# Altium footprint library Mainboard.PcbLib: 25 footprints (part 1 of 2)
Each footprint in its own frame and in the unit in brackets; x right, y up, seen from the top. Pads: shape width x height; smd on the part's side, far side on the other; paste and mask are expansions set on the pad; w line width, h text height; cw(c..) or ccw(c..) is an arc to the next point about the centre after c.
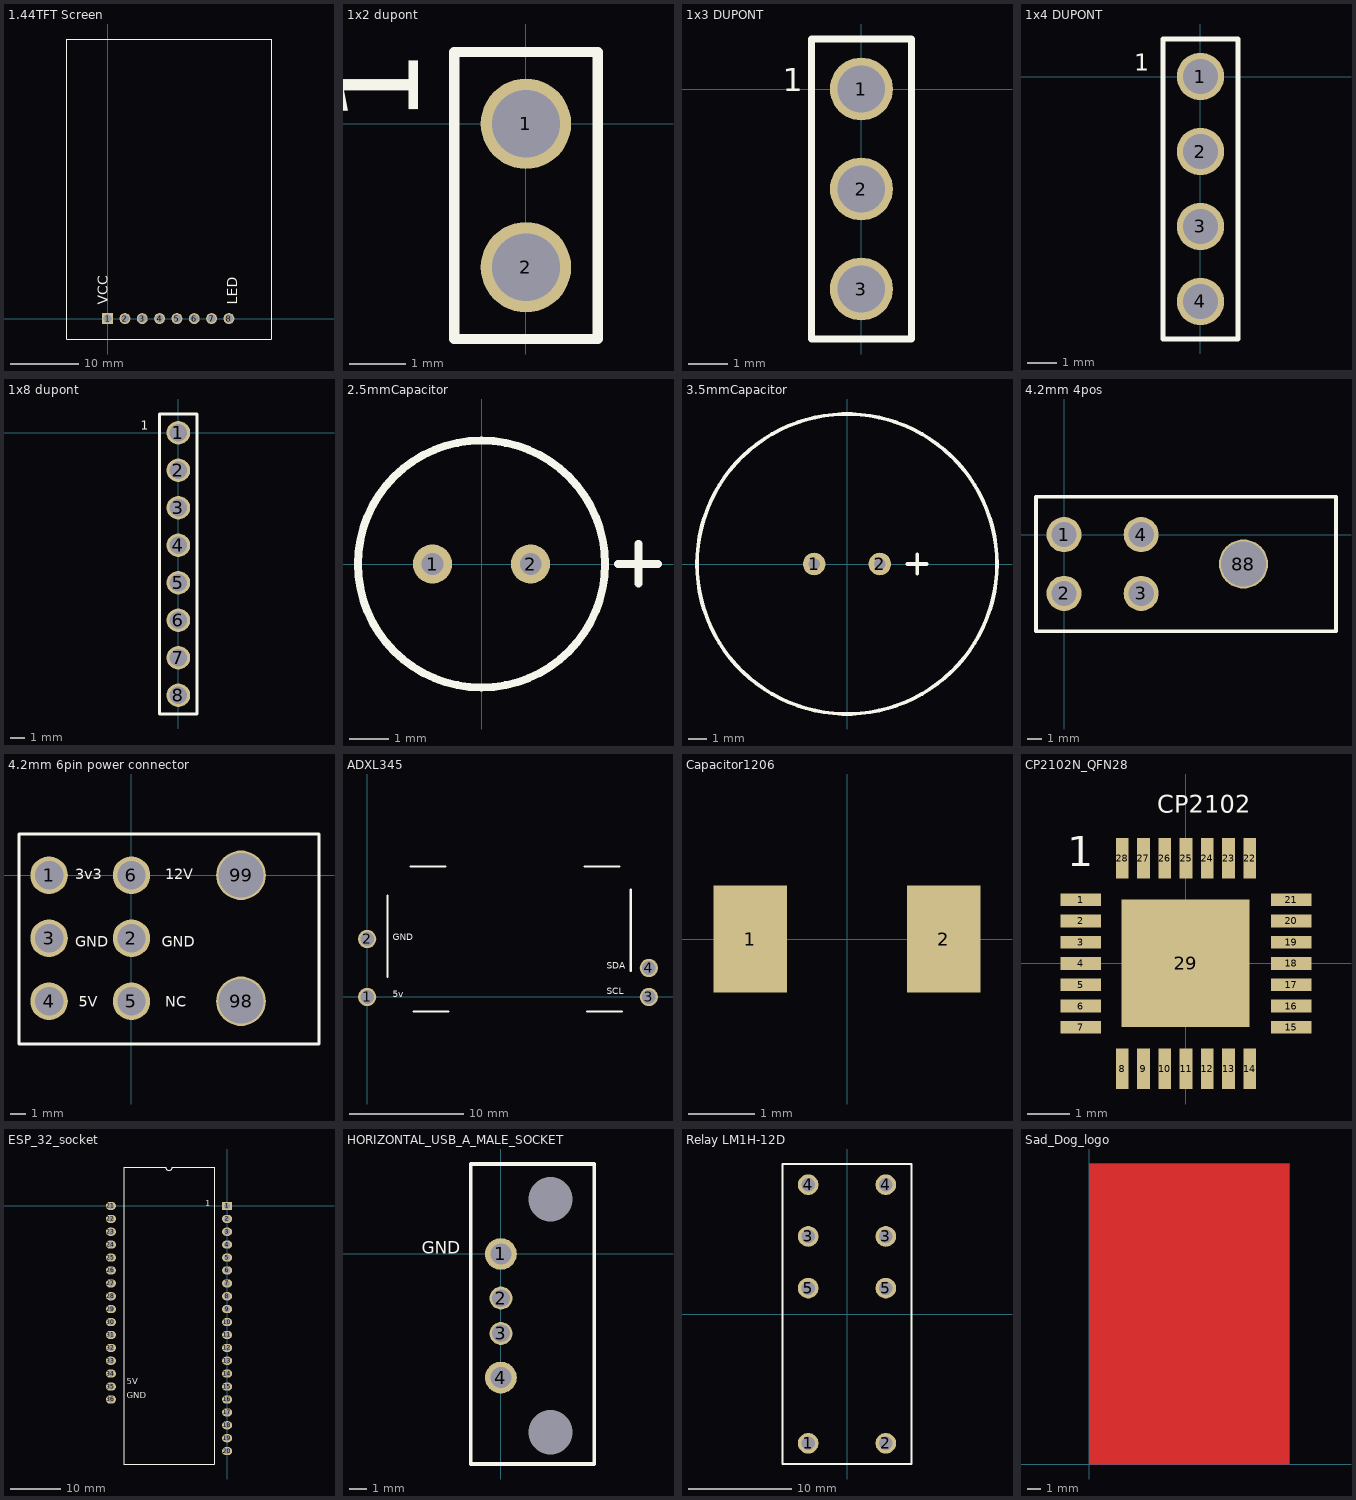
[diagram p0: the footprints below, top view; thin cyan lines are the x and y axes]

## 1.44TFT Screen [mm]
pads (8):
  rect 1.6x1.6 hole 1.2: 1(0,0)
  round 1.6 hole 1.2: 2(2.54,0) 3(5.08,0) 4(7.62,0) 5(10.16,0) 6(12.7,0) 7(15.24,0) 8(17.78,0)
Top Overlay:
  lines w0.18: -6,-3 24,-3 24,41 -6,41 -6,-3
  text "LED" at 19,2 h1.52
  text "VCC" at 0,2 h1.52

## 1x2 dupont [mm]
pads (2):
  round 1.6 hole 1.2: 1(0,0) 2(0,-2.54)
Top Overlay:
  lines w0.18: -1.27,-3.81 -1.27,1.27 1.27,1.27 1.27,-3.81 -1.27,-3.81
  text "1" at -1.905,0 h1.5
3D body "1x2 TH Pitch 2_54mm.step": height 9.5, standoff -3.2, extent -1.27,-3.81 1.27,1.27

## 1x3 DUPONT [mm]
pads (3):
  round 1.6 hole 1.2: 1(0,0) 2(0,-2.54) 3(0,-5.08)
Top Overlay:
  lines w0.18: -1.27,-6.35 1.27,-6.35 1.27,1.27 -1.27,1.27 -1.27,-6.35
  text "1" at -2,-0.25 h1
3D body "1x3 TH Pitch 2_54mm.step": height 9.5, standoff -3.2, extent -1.27,-6.35 1.27,1.27

## 1x4 DUPONT [mm]
pads (4):
  round 1.6 hole 1.2: 1(0,0) 2(0,-2.54) 3(0,-5.08) 4(0,-7.62)
Top Overlay:
  lines w0.18: -1.27,-8.89 -1.27,1.27 1.27,1.27 1.27,-8.89 -1.27,-8.89
  text "1" at -2.25,0 h1
3D body "1x4 TH Pitch 2_54mm.STEP": height 9.2, standoff -3.5, extent -1.27,-8.89 1.27,1.27

## 1x8 dupont [mm]
pads (8):
  round 1.6 hole 1.2: 1(0,0) 2(0,-2.54) 3(0,-5.08) 4(0,-7.62) 5(0,-10.16) 6(0,-12.7) 7(0,-15.24) 8(0,-17.78)
Top Overlay:
  lines w0.2: -1.27,-19.05 -1.27,1.27 1.27,1.27 1.27,-19.05 -1.27,-19.05
  text "1" at -2.54,0 h1
3D body "1x8 TH Pitch 2_54mm.STEP": height 9.2, standoff -3.5, extent -1.27,-19.05 1.27,1.27

## 2.5mmCapacitor [mm]
pads (2):
  round 1 hole 0.55: 1(-1.25,0) 2(1.25,0)
Top Overlay:
  circle w0.2: c0,0 r3.15
  lines w0.2: 3.484,0 4.5,0 ; 4,-0.5 4,0.516
3D body "User Library-Cap-EL(6_3x11-2_5).step": height 11, standoff -3.2, extent -3.15,-3.149 3.152,3.149

## 3.5mmCapacitor [mm]
pads (2):
  round 1.2 hole 0.6: 1(-1.75,0) 2(1.75,0)
Top Overlay:
  circle w0.2: c0,0 r8
  lines w0.2: 3.232,0 4.248,0 ; 3.74,-0.508 3.74,0.508

## 4.2mm 4pos [mm]
pads (5):
  round 2.5 hole 1.8: 1(0,0) 2(0,-4.2) 3(5.5,-4.2) 4(5.5,0)
  round 3.5 hole 3.2: 88(12.8,-2.1)
Top Overlay:
  lines w0.254: -2,-6.9 19.4,-6.9 19.4,2.7 -2,2.7 -2,-6.9
3D body "39300040.stp": height 11.4, standoff -3.6, extent -0.467,-6.9 19.467,3.1

## 4.2mm 6pin power connector [mm]
pads (8):
  round 2.5 hole 1.9: 1(-5.5,0) 2(0,-4.2) 3(-5.5,-4.2) 4(-5.5,-8.4) 5(0,-8.4) 6(0,0)
  round 3.3 hole 3 unplated: 98(7.3,-8.4) 99(7.3,0)
Top Overlay:
  lines w0.2: -7.5,-11.25 12.5,-11.25 12.5,2.75 -7.5,2.75 -7.5,-11.25
  text "12V" at 2.25,-0.5 h1.2
  text "GND" at -3.75,-5 h1.2
  text "NC" at 2.25,-9 h1.2
  text "5V" at -3.5,-9 h1.2
  text "GND" at 2,-5 h1.2
  text "3v3" at -3.75,-0.5 h1.2

## ADXL345 [mm]
pads (4):
  round 1.6 hole 1.2: 1(0,0) 2(0,5.08) 3(24.7,0) 4(24.7,2.54)
Top Overlay:
  lines w0.2: 1.778,1.778 1.778,8.89 ; 3.81,11.43 6.858,11.43 ; 4.064,-1.27 7.112,-1.27 ; 19.05,11.43 22.098,11.43 ; 19.304,-1.27 20.066,-1.27 21.59,-1.27 22.352,-1.27 ; 23.114,2.286 23.114,9.398
  text "SCL" at 21,0 h1
  text "SDA" at 21,2.25 h1
  text "GND" at 2.25,4.75 h1
  text "5v" at 2.25,-0.25 h1

## Capacitor1206 [mm]
pads (2):
  rect 1.1x1.6 smd: 1(-1.45,0) 2(1.45,0)
3D body "User Library-SMD CAPACITOR1206.step": height 0.79, standoff 0.01, extent -1.6,-0.8 1.6,0.8

## CP2102N_QFN28 [mm]
pads (29):
  rect 0.95x0.3 smd: 1(-2.475,1.5) 2(-2.475,1) 3(-2.475,0.5) 4(-2.475,0) 5(-2.475,-0.5) 6(-2.475,-1) 7(-2.475,-1.5) 15(2.475,-1.5) 16(2.475,-1) 17(2.475,-0.5) 18(2.475,0) 19(2.475,0.5) 20(2.475,1) 21(2.475,1.5)
  rect 0.3x0.95 smd: 8(-1.5,-2.475) 9(-1,-2.475) 10(-0.5,-2.475) 11(0,-2.475) 12(0.5,-2.475) 13(1,-2.475) 14(1.5,-2.475) 22(1.5,2.475) 23(1,2.475) 24(0.5,2.475) 25(0,2.475) 26(-0.5,2.475) 27(-1,2.475) 28(-1.5,2.475)
  rect 3x3 smd: 29(-0.011,0.001)
Top Overlay:
  text "CP2102" at -0.675,3.4 h0.7
  text "1" at -2.794,2.286 h0.7
3D body "cp2102n-a01-gqfn28.stp": height 0.75, standoff 0, extent -2.5,-2.51 2.52,2.51

## ESP_32_socket [mm]
pads (36):
  rect 2x1.6 hole 1.2: 1(0,0)
  oval 2x1.6 hole 1.2: 2(0,-2.54) 3(0,-5.08) 4(0,-7.62) 5(0,-10.16) 6(0,-12.7) 7(0,-15.24) 8(0,-17.78) 9(0,-20.32) 10(0,-22.86) 11(0,-25.4) 12(0,-27.94) 13(0,-30.48) 14(0,-33.02) 15(0,-35.56) 16(0,-38.1) 17(0,-40.64) 18(0,-43.18) 19(0,-45.72) 20(0,-48.26) 21(-22.86,0) 22(-22.86,-2.54) 23(-22.86,-5.08) 24(-22.86,-7.62) 25(-22.86,-10.16) 26(-22.86,-12.7) 27(-22.86,-15.24) 28(-22.86,-17.78) 29(-22.86,-20.32) 30(-22.86,-22.86) 31(-22.86,-25.4) 32(-22.86,-27.94) 33(-22.86,-30.48) 34(-22.86,-33.02) 35(-22.86,-35.56) 36(-22.86,-38.1)
Top Overlay:
  lines w0.2: -20.32,-50.8 -20.32,7.62 -12.065,7.62 ccw(c-11.43,7.62) -10.795,7.62 -2.54,7.62 -2.54,-50.8 -20.32,-50.8
  text "GND" at -19.75,-38.25 h2.03
  text "5V" at -19.75,-35.5 h2.03
  text "1" at -4.25,-0.5 h2.03

## HORIZONTAL_USB_A_MALE_SOCKET [mm]
pads (6):
  round 1.8 hole 1.2: 1(0,0) 4(0,-7)
  round 1.3 hole 1: 2(0,-2.5) 3(0,-4.5)
  round 0 hole 2.5: 5(2.8,-10.1) 8(2.8,3.1)
Top Overlay:
  lines w0.2: -1.7,-11.9 -1.7,5.1 5.3,5.1 5.3,-11.9 -1.7,-11.9
  text "GND" at -4.5,-0.25 h1.2
3D body "1076663_292303-1.stp": height 7.67, standoff -3.6, extent -1,-11.617 13,4.617

## Relay LM1H-12D [mm]
pads (8):
  round 2 hole 1.3: 1(-3.75,-12.5) 2(3.75,-12.5) 3(-3.75,7.5) 3(3.75,7.5) 4(-3.75,12.5) 4(3.75,12.5) 5(-3.75,2.5) 5(3.75,2.5)
Top Overlay:
  lines w0.2: -6.25,-14.5 6.25,-14.5 6.25,14.5 -6.25,14.5 -6.25,-14.5
3D body "User Library-LM1H-12D.step": height 20.9, standoff -3.99, extent -6.25,-14.75 6.25,14.75

## Sad_Dog_logo [mm]
Top Layer:
  rectangle: 0.5,0.5 14.5,22
  pour cut-out: -0.5,22.5
  pour cut-out: 0,22.5 15,22.5 15,0 0,0
Bottom Layer:
  rectangle: 0.5,0.5 14.5,22
  pour cut-out: 0,22.5 15,22.5 15,0 0,0
Top Solder:
  lines w0.2: 0,0 0,22.5 15,22.5 15,0 0,0
  lines w0.254: 0.5,0.5 0.5,22 14.5,22 14.5,0.5 0.5,0.5
  text "pls work..." at 6.2,0.9 h1.25
  text "LUCKY DOG INSIDE" at 1.1,5.4 h1.25
Bottom Solder:
  lines w0.2: 0,0 0,22.5 15,22.5 15,0 0,0
  lines w0.254: 0.5,0.5 0.5,22 14.5,22 14.5,0.5 0.5,0.5
  text "ABCDEFGHIJKLMOPQ" at 14.224,20.828 h1.5
  text "WOLFGASM" at 12.192,8.763 h1.5
  text "UWU_OWO_AWOORU" at 14.478,9.906 h1.5
  text "ABCDEFGHIJKLMOPQ" at 14.224,0.762 h1.5